# EAGLE library part CG2179M2 (library CG2179M2)
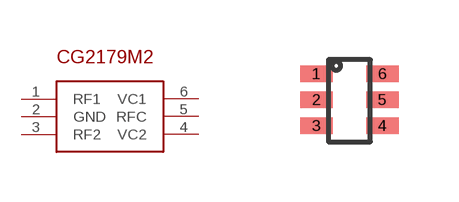
[diagram p0: symbol with the pads of 6PINMINIMOLD; footprint 6PINMINIMOLD]

Designator prefix -

## CG2179M2  [6PINMINIMOLD]
1  RF1
2  GND
3  RF2
4  VC2
5  RFC
6  VC1

## Footprint 6PINMINIMOLD (pad centres in mm)
smd 0.813 x 0.406: 1 -0.5,0.2; 2 -0.5,-0.45; 3 -0.5,-1.1; 4 1.15,-1.1; 5 1.15,-0.45; 6 1.15,0.2